# Altium schematic symbol library RES_93.1k_0.0625W_0402.SchLib: 1 symbol
Pins are listed as number, name and electrical type; pins without a type are passive.

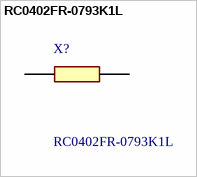
[diagram p0: symbol RC0402FR-0793K1L]

## RC0402FR-0793K1L
designator X?
Thick Film Resistors 93.1K OHM 1%; Manufacturer_Name: KEMET; Geometry.Height: 0.4mm; Manufacturer_Part_Number: RC0402FR-0793K1L; Mouser Part Number: 603-RC0402FR-0793K1L; Mouser Price/Stock: *; Arrow Part Number: *; Arrow Price/Stock: *; Datasheet Link: http://www.yageo.com/documents/recent/PYu-RC0402_51_RoHS_L_6_r.pdf
footprint RESC1005X40N
pins: 1, 2